# EAGLE library part 47553-0001 (library Jack-connectors)
Molex Push-Push 6 pins SIM card connector with card detect switch
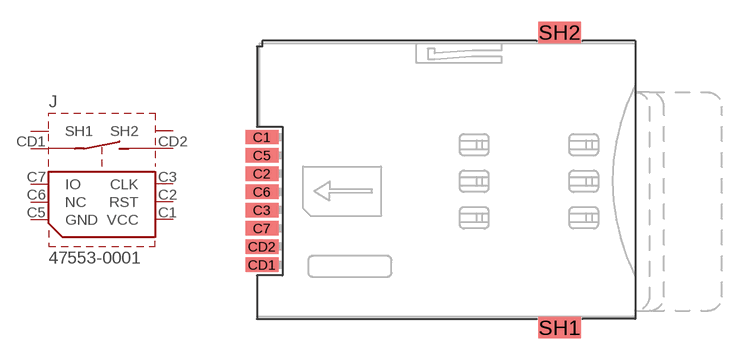
[diagram p24: symbol with the pads of SD-47553-001; footprint SD-47553-001]

Designator prefix J

## 47553-0001 (DESCRIPTION: Molex Push-Push 6 pins SIM card connector with card detect switch; PACK: 47553-0001)  [SD-47553-001]
C1  VCC  pwr
C2  RST  in
C3  CLK  in
C5  GND  pwr
C6  NC  nc
C7  IO
CD1  CD1  pas
CD2  CD2  pas
SH1  SH1  pas
SH2  SH2  pas

## Footprint SD-47553-001 (pad centres in mm)
smd 2.3 x 1: C1 -12.8,2.985; C2 -12.8,0.445; C3 -12.8,-2.095; C5 -12.8,1.715; C6 -12.8,-0.825; C7 -12.8,-3.365; CD1 -12.8,-5.905; CD2 -12.8,-4.635
smd 2.95 x 1.5: SH1 7.9,-10.275; SH2 7.9,10.275